# EAGLE library part TS3USB221A (library SparkFun-AnalogIC)
DPDT Analog Mux Vcc 2.5 to 3.3V Passes up to 5.5V at 3.3V supply 900MHz BW, 6Ω switch resistance
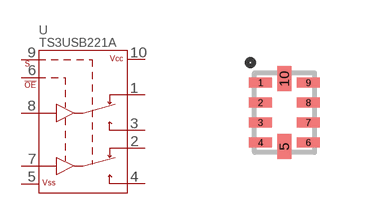
[diagram p41: symbol with the pads of QFN-10-RSE; footprint QFN-10-RSE]

Designator prefix U

## TS3USB221A (PROD_ID: IC-12115; VALUE: TS3USB221A)  [QFN-10-RSE]
1  1D+
2  1D-
3  2D+
4  2D-
5  VSS
6  !OE
7  D-
8  D+
9  S
10  VCC

## Footprint QFN-10-RSE (pad centres in mm)
smd 0.58 x 0.25: 1 -0.6,0.75; 2 -0.6,0.25; 3 -0.6,-0.25; 4 -0.6,-0.75; 6 0.6,-0.75; 7 0.6,-0.25; 8 0.6,0.25; 9 0.6,0.75
smd 0.35 x 0.63: 5 0,-0.85; 10 0,0.85